# Altium schematic symbol library jlcpcb_2025_04_inductors_extended_1210.schlib: 422 symbols (part 5 of 8)
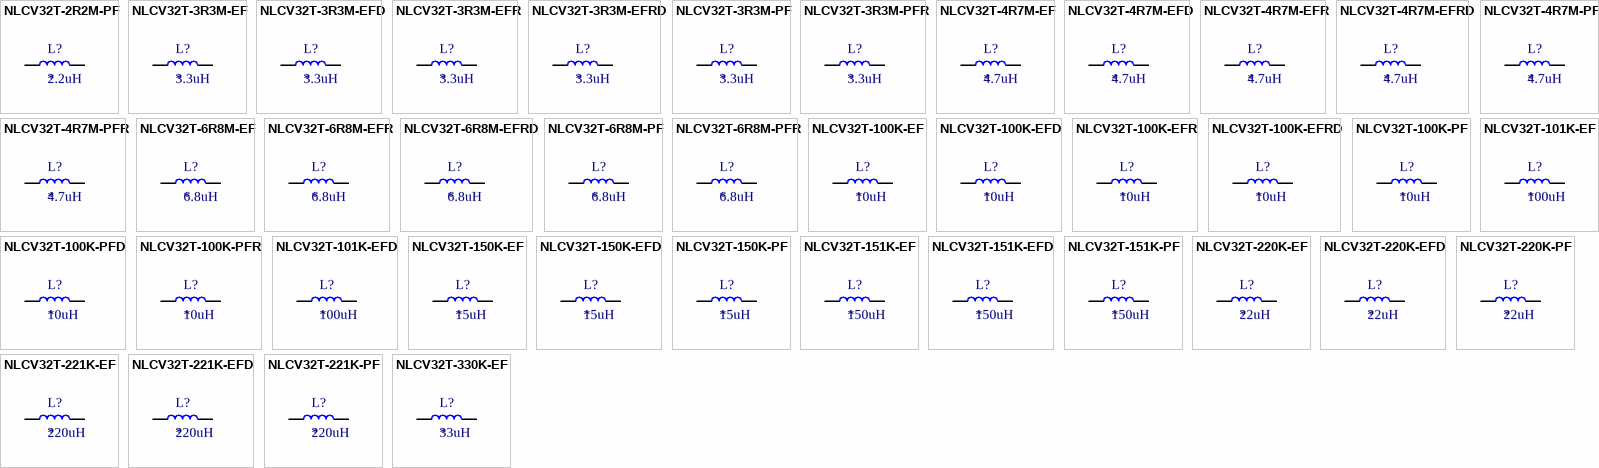
[diagram p14: symbols NLCV32T-2R2M-PF to NLCV32T-330K-EF]

## NLCV32T-4R7M-PF
designator L?  Inductance: 4.7uH
Inductor, 4.7uH, ±20%, 200mΩ, 620mA, SMD 1210; Manufacturer: TDK; Manufacturer Part Number: NLCV32T-4R7M-PF; Self-Resonant Frequency: 46MHz; Q Factor: 15@7.96MHz; Package Size: 1210; JLCPCB Basic Part: No; JLCPCB Part Number: C250185; Supplier 1: LCSC; Category: Inductors; Supplier Part Number 1: C250185; Tolerance: ±20%; Rated Current: 620mA; DC Resistance: 200mΩ; RoHS: Yes; ComponentLink1Description: Datasheet; ComponentLink1URL: https://wmsc.lcsc.com/wmsc/upload/file/pdf/v2/lcsc/2304140030_TDK-NLCV32T-4R7M-PF_C250185.pdf; ComponentLink2Description: JLCPCB Part URL; ComponentLink2URL: https://jlcpcb.com/partdetail/C250185; ComponentLink3Description: LCSC Part URL; ComponentLink3URL: https://lcsc.com/product-detail/Inductors-SMD_TDK-TDK-NLCV32T-4R7M-PF_C250185.html
footprint IND-1210 (1210 (3225M) Inductor)
pins: 1, 2

## NLCV32T-4R7M-PFR
designator L?  Inductance: 4.7uH
Inductor, 4.7uH, ±20%, 200mΩ, 900mA, SMD 1210; Manufacturer: TDK; Manufacturer Part Number: NLCV32T-4R7M-PFR; Self-Resonant Frequency: 46MHz; Q Factor: 15@7.96MHz; Package Size: 1210; JLCPCB Basic Part: No; JLCPCB Part Number: C307785; Supplier 1: LCSC; Category: Inductors; Supplier Part Number 1: C307785; Tolerance: ±20%; Rated Current: 900mA; DC Resistance: 200mΩ; RoHS: Yes; ComponentLink1Description: Datasheet; ComponentLink1URL: https://wmsc.lcsc.com/wmsc/upload/file/pdf/v2/lcsc/2304140030_TDK-NLCV32T-4R7M-PFR_C307785.pdf; ComponentLink2Description: JLCPCB Part URL; ComponentLink2URL: https://jlcpcb.com/partdetail/C307785; ComponentLink3Description: LCSC Part URL; ComponentLink3URL: https://lcsc.com/product-detail/Inductors-SMD_TDK-TDK-NLCV32T-4R7M-PFR_C307785.html
footprint IND-1210 (1210 (3225M) Inductor)
pins: 1, 2

## NLCV32T-6R8M-EF
designator L?  Inductance: 6.8uH
Inductor, 6.8uH, ±20%, 270mΩ, 530mA, SMD 1210; Manufacturer: TDK; Manufacturer Part Number: NLCV32T-6R8M-EF; Self-Resonant Frequency: 38MHz; Q Factor: 15@7.96MHz; Package Size: 1210; JLCPCB Basic Part: No; JLCPCB Part Number: C250230; Supplier 1: LCSC; Category: Inductors; Supplier Part Number 1: C250230; Tolerance: ±20%; Rated Current: 530mA; DC Resistance: 270mΩ; RoHS: Yes; ComponentLink1Description: Datasheet; ComponentLink1URL: https://wmsc.lcsc.com/wmsc/upload/file/pdf/v2/lcsc/2304140030_TDK-NLCV32T-6R8M-EF_C250230.pdf; ComponentLink2Description: JLCPCB Part URL; ComponentLink2URL: https://jlcpcb.com/partdetail/C250230; ComponentLink3Description: LCSC Part URL; ComponentLink3URL: https://lcsc.com/product-detail/Inductors-SMD_TDK-TDK-NLCV32T-6R8M-EF_C250230.html
footprint IND-1210 (1210 (3225M) Inductor)
pins: 1, 2

## NLCV32T-6R8M-EFR
designator L?  Inductance: 6.8uH
Inductor, 6.8uH, ±20%, 290mΩ, 700mA, SMD 1210; Manufacturer: TDK; Manufacturer Part Number: NLCV32T-6R8M-EFR; Q Factor: 15@7.96MHz; Package Size: 1210; JLCPCB Basic Part: No; JLCPCB Part Number: C295228; Supplier 1: LCSC; Category: Inductors; Supplier Part Number 1: C295228; Tolerance: ±20%; Rated Current: 700mA; DC Resistance: 290mΩ; RoHS: Yes; ComponentLink1Description: Datasheet; ComponentLink1URL: https://wmsc.lcsc.com/wmsc/upload/file/pdf/v2/lcsc/1912111437_TDK-NLCV32T-6R8M-EFR_C295228.pdf; ComponentLink2Description: JLCPCB Part URL; ComponentLink2URL: https://jlcpcb.com/partdetail/C295228; ComponentLink3Description: LCSC Part URL; ComponentLink3URL: https://lcsc.com/product-detail/Inductors-SMD_TDK-TDK-NLCV32T-6R8M-EFR_C295228.html
footprint IND-1210 (1210 (3225M) Inductor)
pins: 1, 2

## NLCV32T-6R8M-EFRD
designator L?  Inductance: 6.8uH
Inductor, 6.8uH, ±20%, 290mΩ, 700mA, SMD 1210; Manufacturer: TDK; Manufacturer Part Number: NLCV32T-6R8M-EFRD; Q Factor: 15@7.96MHz; Package Size: 1210; JLCPCB Basic Part: No; JLCPCB Part Number: C295405; Supplier 1: LCSC; Category: Inductors; Supplier Part Number 1: C295405; Tolerance: ±20%; Rated Current: 700mA; DC Resistance: 290mΩ; RoHS: Yes; ComponentLink1Description: Datasheet; ComponentLink1URL: https://wmsc.lcsc.com/wmsc/upload/file/pdf/v2/lcsc/2304140030_TDK-NLCV32T-6R8M-EFRD_C295405.pdf; ComponentLink2Description: JLCPCB Part URL; ComponentLink2URL: https://jlcpcb.com/partdetail/C295405; ComponentLink3Description: LCSC Part URL; ComponentLink3URL: https://lcsc.com/product-detail/Inductors-SMD_TDK-TDK-NLCV32T-6R8M-EFRD_C295405.html
footprint IND-1210 (1210 (3225M) Inductor)
pins: 1, 2

## NLCV32T-6R8M-PF
designator L?  Inductance: 6.8uH
Inductor, 6.8uH, ±20%, 270mΩ, 530mA, SMD 1210; Manufacturer: TDK; Manufacturer Part Number: NLCV32T-6R8M-PF; Self-Resonant Frequency: 38MHz; Q Factor: 15@7.96MHz; Package Size: 1210; JLCPCB Basic Part: No; JLCPCB Part Number: C87558; Supplier 1: LCSC; Category: Inductors; Supplier Part Number 1: C87558; Tolerance: ±20%; Rated Current: 530mA; DC Resistance: 270mΩ; RoHS: Yes; ComponentLink1Description: Datasheet; ComponentLink1URL: https://wmsc.lcsc.com/wmsc/upload/file/pdf/v2/lcsc/2304140030_TDK-NLCV32T-6R8M-PF_C87558.pdf; ComponentLink2Description: JLCPCB Part URL; ComponentLink2URL: https://jlcpcb.com/partdetail/C87558; ComponentLink3Description: LCSC Part URL; ComponentLink3URL: https://lcsc.com/product-detail/Inductors-SMD_TDK-TDK-NLCV32T-6R8M-PF_C87558.html
footprint IND-1210 (1210 (3225M) Inductor)
pins: 1, 2

## NLCV32T-6R8M-PFR
designator L?  Inductance: 6.8uH
Inductor, 6.8uH, ±20%, 290mΩ, 700mA, SMD 1210; Manufacturer: TDK; Manufacturer Part Number: NLCV32T-6R8M-PFR; Self-Resonant Frequency: 38MHz; Q Factor: 15@7.96MHz; Package Size: 1210; JLCPCB Basic Part: No; JLCPCB Part Number: C87559; Supplier 1: LCSC; Category: Inductors; Supplier Part Number 1: C87559; Tolerance: ±20%; Rated Current: 700mA; DC Resistance: 290mΩ; RoHS: Yes; ComponentLink1Description: Datasheet; ComponentLink1URL: https://wmsc.lcsc.com/wmsc/upload/file/pdf/v2/lcsc/1810201223_TDK-NLCV32T-6R8M-PFR_C87559.pdf; ComponentLink2Description: JLCPCB Part URL; ComponentLink2URL: https://jlcpcb.com/partdetail/C87559; ComponentLink3Description: LCSC Part URL; ComponentLink3URL: https://lcsc.com/product-detail/Inductors-SMD_TDK-TDK-NLCV32T-6R8M-PFR_C87559.html
footprint IND-1210 (1210 (3225M) Inductor)
pins: 1, 2

## NLCV32T-100K-EF
designator L?  Inductance: 10uH
Inductor, 10uH, ±10%, 360mΩ, 450mA, SMD 1210; Manufacturer: TDK; Manufacturer Part Number: NLCV32T-100K-EF; Self-Resonant Frequency: 30MHz; Q Factor: 15@2.52MHz; Package Size: 1210; JLCPCB Basic Part: No; JLCPCB Part Number: C250231; Supplier 1: LCSC; Category: Inductors; Supplier Part Number 1: C250231; Tolerance: ±10%; Rated Current: 450mA; DC Resistance: 360mΩ; RoHS: Yes; ComponentLink1Description: Datasheet; ComponentLink1URL: https://wmsc.lcsc.com/wmsc/upload/file/pdf/v2/lcsc/2304140030_TDK-NLCV32T-100K-EF_C250231.pdf; ComponentLink2Description: JLCPCB Part URL; ComponentLink2URL: https://jlcpcb.com/partdetail/C250231; ComponentLink3Description: LCSC Part URL; ComponentLink3URL: https://lcsc.com/product-detail/Inductors-SMD_TDK-TDK-NLCV32T-100K-EF_C250231.html
footprint IND-1210 (1210 (3225M) Inductor)
pins: 1, 2

## NLCV32T-100K-EFD
designator L?  Inductance: 10uH
Inductor, 10uH, ±10%, 360mΩ, 450mA, SMD 1210; Manufacturer: TDK; Manufacturer Part Number: NLCV32T-100K-EFD; Self-Resonant Frequency: 30MHz; Q Factor: 15@2.52MHz; Package Size: 1210; JLCPCB Basic Part: No; JLCPCB Part Number: C21764; Supplier 1: LCSC; Category: Inductors; Supplier Part Number 1: C21764; Tolerance: ±10%; Rated Current: 450mA; DC Resistance: 360mΩ; RoHS: Yes; ComponentLink1Description: Datasheet; ComponentLink1URL: https://wmsc.lcsc.com/wmsc/upload/file/pdf/v2/lcsc/1810211604_TDK-NLCV32T-100K-EFD_C21764.pdf; ComponentLink2Description: JLCPCB Part URL; ComponentLink2URL: https://jlcpcb.com/partdetail/C21764; ComponentLink3Description: LCSC Part URL; ComponentLink3URL: https://lcsc.com/product-detail/Inductors-SMD_TDK-TDK-NLCV32T-100K-EFD_C21764.html
footprint IND-1210 (1210 (3225M) Inductor)
pins: 1, 2

## NLCV32T-100K-EFR
designator L?  Inductance: 10uH
Inductor, 10uH, ±10%, 420mΩ, 600mA, SMD 1210; Manufacturer: TDK; Manufacturer Part Number: NLCV32T-100K-EFR; Self-Resonant Frequency: 30MHz; Q Factor: 20@2.52MHz; Package Size: 1210; JLCPCB Basic Part: No; JLCPCB Part Number: C295195; Supplier 1: LCSC; Category: Inductors; Supplier Part Number 1: C295195; Tolerance: ±10%; Rated Current: 600mA; DC Resistance: 420mΩ; RoHS: Yes; ComponentLink1Description: Datasheet; ComponentLink1URL: https://wmsc.lcsc.com/wmsc/upload/file/pdf/v2/lcsc/2304140030_TDK-NLCV32T-100K-EFR_C295195.pdf; ComponentLink2Description: JLCPCB Part URL; ComponentLink2URL: https://jlcpcb.com/partdetail/C295195; ComponentLink3Description: LCSC Part URL; ComponentLink3URL: https://lcsc.com/product-detail/Inductors-SMD_TDK-TDK-NLCV32T-100K-EFR_C295195.html
footprint IND-1210 (1210 (3225M) Inductor)
pins: 1, 2

## NLCV32T-100K-EFRD
designator L?  Inductance: 10uH
Inductor, 10uH, ±10%, 420mΩ, 600mA, SMD 1210; Manufacturer: TDK; Manufacturer Part Number: NLCV32T-100K-EFRD; Self-Resonant Frequency: 30MHz; Q Factor: 20@2.52MHz; Package Size: 1210; JLCPCB Basic Part: No; JLCPCB Part Number: C286542; Supplier 1: LCSC; Category: Inductors; Supplier Part Number 1: C286542; Tolerance: ±10%; Rated Current: 600mA; DC Resistance: 420mΩ; RoHS: Yes; ComponentLink1Description: Datasheet; ComponentLink1URL: https://wmsc.lcsc.com/wmsc/upload/file/pdf/v2/lcsc/2304140030_TDK-NLCV32T-100K-EFRD_C286542.pdf; ComponentLink2Description: JLCPCB Part URL; ComponentLink2URL: https://jlcpcb.com/partdetail/C286542; ComponentLink3Description: LCSC Part URL; ComponentLink3URL: https://lcsc.com/product-detail/Inductors-SMD_TDK-TDK-NLCV32T-100K-EFRD_C286542.html
footprint IND-1210 (1210 (3225M) Inductor)
pins: 1, 2

## NLCV32T-100K-PF
designator L?  Inductance: 10uH
Inductor, 10uH, ±10%, 360mΩ, 450mA, SMD 1210; Manufacturer: TDK; Manufacturer Part Number: NLCV32T-100K-PF; Self-Resonant Frequency: 30MHz; Q Factor: 15@2.52MHz; Package Size: 1210; JLCPCB Basic Part: No; JLCPCB Part Number: C107341; Supplier 1: LCSC; Category: Inductors; Supplier Part Number 1: C107341; Tolerance: ±10%; Rated Current: 450mA; DC Resistance: 360mΩ; RoHS: Yes; ComponentLink1Description: Datasheet; ComponentLink1URL: https://wmsc.lcsc.com/wmsc/upload/file/pdf/v2/lcsc/2304140030_TDK-NLCV32T-100K-PF_C107341.pdf; ComponentLink2Description: JLCPCB Part URL; ComponentLink2URL: https://jlcpcb.com/partdetail/C107341; ComponentLink3Description: LCSC Part URL; ComponentLink3URL: https://lcsc.com/product-detail/Inductors-SMD_TDK-TDK-NLCV32T-100K-PF_C107341.html
footprint IND-1210 (1210 (3225M) Inductor)
pins: 1, 2

## NLCV32T-100K-PFD
designator L?  Inductance: 10uH
Inductor, 10uH, ±10%, 360mΩ, 450mA, SMD 1210; Manufacturer: TDK; Manufacturer Part Number: NLCV32T-100K-PFD; Self-Resonant Frequency: 30MHz; Q Factor: 15@2.52MHz; Package Size: 1210; JLCPCB Basic Part: No; JLCPCB Part Number: C307783; Supplier 1: LCSC; Category: Inductors; Supplier Part Number 1: C307783; Tolerance: ±10%; Rated Current: 450mA; DC Resistance: 360mΩ; RoHS: Yes; ComponentLink1Description: Datasheet; ComponentLink1URL: https://wmsc.lcsc.com/wmsc/upload/file/pdf/v2/lcsc/2304140030_TDK-NLCV32T-100K-PFD_C307783.pdf; ComponentLink2Description: JLCPCB Part URL; ComponentLink2URL: https://jlcpcb.com/partdetail/C307783; ComponentLink3Description: LCSC Part URL; ComponentLink3URL: https://lcsc.com/product-detail/Inductors-SMD_TDK-TDK-NLCV32T-100K-PFD_C307783.html
footprint IND-1210 (1210 (3225M) Inductor)
pins: 1, 2

## NLCV32T-100K-PFR
designator L?  Inductance: 10uH
Inductor, 10uH, ±10%, 420mΩ, 600mA, SMD 1210; Manufacturer: TDK; Manufacturer Part Number: NLCV32T-100K-PFR; Self-Resonant Frequency: 30MHz; Q Factor: 20@2.52MHz; Package Size: 1210; JLCPCB Basic Part: No; JLCPCB Part Number: C74563; Supplier 1: LCSC; Category: Inductors; Supplier Part Number 1: C74563; Tolerance: ±10%; Rated Current: 600mA; DC Resistance: 420mΩ; RoHS: Yes; ComponentLink1Description: Datasheet; ComponentLink1URL: https://wmsc.lcsc.com/wmsc/upload/file/pdf/v2/lcsc/1810201211_TDK-NLCV32T-100K-PFR_C74563.pdf; ComponentLink2Description: JLCPCB Part URL; ComponentLink2URL: https://jlcpcb.com/partdetail/C74563; ComponentLink3Description: LCSC Part URL; ComponentLink3URL: https://lcsc.com/product-detail/Inductors-SMD_TDK-TDK-NLCV32T-100K-PFR_C74563.html
footprint IND-1210 (1210 (3225M) Inductor)
pins: 1, 2

## NLCV32T-101K-EF
designator L?  Inductance: 100uH
Inductor, 100uH, ±10%, 3.7Ω, 120mA, SMD 1210; Manufacturer: TDK; Manufacturer Part Number: NLCV32T-101K-EF; Self-Resonant Frequency: 10MHz; Q Factor: 15@0.796MHz; Package Size: 1210; JLCPCB Basic Part: No; JLCPCB Part Number: C165807; Supplier 1: LCSC; Category: Inductors; Supplier Part Number 1: C165807; Tolerance: ±10%; Rated Current: 120mA; DC Resistance: 3.7Ω; RoHS: Yes; ComponentLink1Description: Datasheet; ComponentLink1URL: https://wmsc.lcsc.com/wmsc/upload/file/pdf/v2/lcsc/2304140030_TDK-NLCV32T-101K-EF_C165807.pdf; ComponentLink2Description: JLCPCB Part URL; ComponentLink2URL: https://jlcpcb.com/partdetail/C165807; ComponentLink3Description: LCSC Part URL; ComponentLink3URL: https://lcsc.com/product-detail/Inductors-SMD_TDK-TDK-NLCV32T-101K-EF_C165807.html
footprint IND-1210 (1210 (3225M) Inductor)
pins: 1, 2

## NLCV32T-101K-EFD
designator L?  Inductance: 100uH
Inductor, 100uH, ±10%, 3.7Ω, 120mA, SMD 1210; Manufacturer: TDK; Manufacturer Part Number: NLCV32T-101K-EFD; Self-Resonant Frequency: 10MHz; Q Factor: 15@0.796MHz; Package Size: 1210; JLCPCB Basic Part: No; JLCPCB Part Number: C295378; Supplier 1: LCSC; Category: Inductors; Supplier Part Number 1: C295378; Tolerance: ±10%; Rated Current: 120mA; DC Resistance: 3.7Ω; RoHS: Yes; ComponentLink1Description: Datasheet; ComponentLink1URL: https://wmsc.lcsc.com/wmsc/upload/file/pdf/v2/lcsc/2304140030_TDK-NLCV32T-101K-EFD_C295378.pdf; ComponentLink2Description: JLCPCB Part URL; ComponentLink2URL: https://jlcpcb.com/partdetail/C295378; ComponentLink3Description: LCSC Part URL; ComponentLink3URL: https://lcsc.com/product-detail/Inductors-SMD_TDK-TDK-NLCV32T-101K-EFD_C295378.html
footprint IND-1210 (1210 (3225M) Inductor)
pins: 1, 2

## NLCV32T-150K-EF
designator L?  Inductance: 15uH
Inductor, 15uH, ±10%, 560mΩ, 370mA, SMD 1210; Manufacturer: TDK; Manufacturer Part Number: NLCV32T-150K-EF; Self-Resonant Frequency: 26MHz; Q Factor: 15@2.52MHz; Package Size: 1210; JLCPCB Basic Part: No; JLCPCB Part Number: C250232; Supplier 1: LCSC; Category: Inductors; Supplier Part Number 1: C250232; Tolerance: ±10%; Rated Current: 370mA; DC Resistance: 560mΩ; RoHS: Yes; ComponentLink1Description: Datasheet; ComponentLink1URL: https://wmsc.lcsc.com/wmsc/upload/file/pdf/v2/lcsc/2304140030_TDK-NLCV32T-150K-EF_C250232.pdf; ComponentLink2Description: JLCPCB Part URL; ComponentLink2URL: https://jlcpcb.com/partdetail/C250232; ComponentLink3Description: LCSC Part URL; ComponentLink3URL: https://lcsc.com/product-detail/Inductors-SMD_TDK-TDK-NLCV32T-150K-EF_C250232.html
footprint IND-1210 (1210 (3225M) Inductor)
pins: 1, 2

## NLCV32T-150K-EFD
designator L?  Inductance: 15uH
Inductor, 15uH, ±10%, 560mΩ, 370mA, SMD 1210; Manufacturer: TDK; Manufacturer Part Number: NLCV32T-150K-EFD; Self-Resonant Frequency: 26MHz; Q Factor: 15@2.52MHz; Package Size: 1210; JLCPCB Basic Part: No; JLCPCB Part Number: C295379; Supplier 1: LCSC; Category: Inductors; Supplier Part Number 1: C295379; Tolerance: ±10%; Rated Current: 370mA; DC Resistance: 560mΩ; RoHS: Yes; ComponentLink1Description: Datasheet; ComponentLink1URL: https://wmsc.lcsc.com/wmsc/upload/file/pdf/v2/lcsc/2304140030_TDK-NLCV32T-150K-EFD_C295379.pdf; ComponentLink2Description: JLCPCB Part URL; ComponentLink2URL: https://jlcpcb.com/partdetail/C295379; ComponentLink3Description: LCSC Part URL; ComponentLink3URL: https://lcsc.com/product-detail/Inductors-SMD_TDK-TDK-NLCV32T-150K-EFD_C295379.html
footprint IND-1210 (1210 (3225M) Inductor)
pins: 1, 2

## NLCV32T-150K-PF
designator L?  Inductance: 15uH
Inductor, 15uH, ±10%, 560mΩ, 370mA, SMD 1210; Manufacturer: TDK; Manufacturer Part Number: NLCV32T-150K-PF; Self-Resonant Frequency: 26MHz; Q Factor: 15@2.52MHz; Package Size: 1210; JLCPCB Basic Part: No; JLCPCB Part Number: C250186; Supplier 1: LCSC; Category: Inductors; Supplier Part Number 1: C250186; Tolerance: ±10%; Rated Current: 370mA; DC Resistance: 560mΩ; RoHS: Yes; ComponentLink1Description: Datasheet; ComponentLink1URL: https://wmsc.lcsc.com/wmsc/upload/file/pdf/v2/lcsc/2304140030_TDK-NLCV32T-150K-PF_C250186.pdf; ComponentLink2Description: JLCPCB Part URL; ComponentLink2URL: https://jlcpcb.com/partdetail/C250186; ComponentLink3Description: LCSC Part URL; ComponentLink3URL: https://lcsc.com/product-detail/Inductors-SMD_TDK-TDK-NLCV32T-150K-PF_C250186.html
footprint IND-1210 (1210 (3225M) Inductor)
pins: 1, 2

## NLCV32T-151K-EF
designator L?  Inductance: 150uH
Inductor, 150uH, ±10%, 6.1Ω, 100mA, SMD 1210; Manufacturer: TDK; Manufacturer Part Number: NLCV32T-151K-EF; Self-Resonant Frequency: 8MHz; Q Factor: 20@0.796MHz; Package Size: 1210; JLCPCB Basic Part: No; JLCPCB Part Number: C250237; Supplier 1: LCSC; Category: Inductors; Supplier Part Number 1: C250237; Tolerance: ±10%; Rated Current: 100mA; DC Resistance: 6.1Ω; RoHS: Yes; ComponentLink1Description: Datasheet; ComponentLink1URL: https://wmsc.lcsc.com/wmsc/upload/file/pdf/v2/lcsc/2304140030_TDK-NLCV32T-151K-EF_C250237.pdf; ComponentLink2Description: JLCPCB Part URL; ComponentLink2URL: https://jlcpcb.com/partdetail/C250237; ComponentLink3Description: LCSC Part URL; ComponentLink3URL: https://lcsc.com/product-detail/Inductors-SMD_TDK-TDK-NLCV32T-151K-EF_C250237.html
footprint IND-1210 (1210 (3225M) Inductor)
pins: 1, 2

## NLCV32T-151K-EFD
designator L?  Inductance: 150uH
Inductor, 150uH, ±10%, 6.1Ω, 100mA, SMD 1210; Manufacturer: TDK; Manufacturer Part Number: NLCV32T-151K-EFD; Self-Resonant Frequency: 8MHz; Q Factor: 20@0.796MHz; Package Size: 1210; JLCPCB Basic Part: No; JLCPCB Part Number: C295220; Supplier 1: LCSC; Category: Inductors; Supplier Part Number 1: C295220; Tolerance: ±10%; Rated Current: 100mA; DC Resistance: 6.1Ω; RoHS: Yes; ComponentLink1Description: Datasheet; ComponentLink1URL: https://wmsc.lcsc.com/wmsc/upload/file/pdf/v2/lcsc/2304140030_TDK-NLCV32T-151K-EFD_C295220.pdf; ComponentLink2Description: JLCPCB Part URL; ComponentLink2URL: https://jlcpcb.com/partdetail/C295220; ComponentLink3Description: LCSC Part URL; ComponentLink3URL: https://lcsc.com/product-detail/Inductors-SMD_TDK-TDK-NLCV32T-151K-EFD_C295220.html
footprint IND-1210 (1210 (3225M) Inductor)
pins: 1, 2

## NLCV32T-151K-PF
designator L?  Inductance: 150uH
Inductor, 150uH, ±10%, 6.1Ω, 100mA, SMD 1210; Manufacturer: TDK; Manufacturer Part Number: NLCV32T-151K-PF; Self-Resonant Frequency: 8MHz; Q Factor: 20@0.796MHz; Package Size: 1210; JLCPCB Basic Part: No; JLCPCB Part Number: C250188; Supplier 1: LCSC; Category: Inductors; Supplier Part Number 1: C250188; Tolerance: ±10%; Rated Current: 100mA; DC Resistance: 6.1Ω; RoHS: Yes; ComponentLink1Description: Datasheet; ComponentLink1URL: https://wmsc.lcsc.com/wmsc/upload/file/pdf/v2/lcsc/2304140030_TDK-NLCV32T-151K-PF_C250188.pdf; ComponentLink2Description: JLCPCB Part URL; ComponentLink2URL: https://jlcpcb.com/partdetail/C250188; ComponentLink3Description: LCSC Part URL; ComponentLink3URL: https://lcsc.com/product-detail/Inductors-SMD_TDK-TDK-NLCV32T-151K-PF_C250188.html
footprint IND-1210 (1210 (3225M) Inductor)
pins: 1, 2

## NLCV32T-220K-EF
designator L?  Inductance: 22uH
Inductor, 22uH, ±10%, 770mΩ, 300mA, SMD 1210; Manufacturer: TDK; Manufacturer Part Number: NLCV32T-220K-EF; Self-Resonant Frequency: 21MHz; Q Factor: 15@2.52MHz; Package Size: 1210; JLCPCB Basic Part: No; JLCPCB Part Number: C250233; Supplier 1: LCSC; Category: Inductors; Supplier Part Number 1: C250233; Tolerance: ±10%; Rated Current: 300mA; DC Resistance: 770mΩ; RoHS: Yes; ComponentLink1Description: Datasheet; ComponentLink1URL: https://wmsc.lcsc.com/wmsc/upload/file/pdf/v2/lcsc/2304140030_TDK-NLCV32T-220K-EF_C250233.pdf; ComponentLink2Description: JLCPCB Part URL; ComponentLink2URL: https://jlcpcb.com/partdetail/C250233; ComponentLink3Description: LCSC Part URL; ComponentLink3URL: https://lcsc.com/product-detail/Inductors-SMD_TDK-TDK-NLCV32T-220K-EF_C250233.html
footprint IND-1210 (1210 (3225M) Inductor)
pins: 1, 2

## NLCV32T-220K-EFD
designator L?  Inductance: 22uH
Inductor, 22uH, ±10%, 770mΩ, 300mA, SMD 1210; Manufacturer: TDK; Manufacturer Part Number: NLCV32T-220K-EFD; Self-Resonant Frequency: 21MHz; Q Factor: 15@2.52MHz; Package Size: 1210; JLCPCB Basic Part: No; JLCPCB Part Number: C295382; Supplier 1: LCSC; Category: Inductors; Supplier Part Number 1: C295382; Tolerance: ±10%; Rated Current: 300mA; DC Resistance: 770mΩ; RoHS: Yes; ComponentLink1Description: Datasheet; ComponentLink1URL: https://wmsc.lcsc.com/wmsc/upload/file/pdf/v2/lcsc/2304140030_TDK-NLCV32T-220K-EFD_C295382.pdf; ComponentLink2Description: JLCPCB Part URL; ComponentLink2URL: https://jlcpcb.com/partdetail/C295382; ComponentLink3Description: LCSC Part URL; ComponentLink3URL: https://lcsc.com/product-detail/Inductors-SMD_TDK-TDK-NLCV32T-220K-EFD_C295382.html
footprint IND-1210 (1210 (3225M) Inductor)
pins: 1, 2

## NLCV32T-220K-PF
designator L?  Inductance: 22uH
Inductor, 22uH, ±10%, 770mΩ, 300mA, SMD 1210; Manufacturer: TDK; Manufacturer Part Number: NLCV32T-220K-PF; Self-Resonant Frequency: 21MHz; Q Factor: 15@2.52MHz; Package Size: 1210; JLCPCB Basic Part: No; JLCPCB Part Number: C83084; Supplier 1: LCSC; Category: Inductors; Supplier Part Number 1: C83084; Tolerance: ±10%; Rated Current: 300mA; DC Resistance: 770mΩ; RoHS: Yes; ComponentLink1Description: Datasheet; ComponentLink1URL: https://wmsc.lcsc.com/wmsc/upload/file/pdf/v2/lcsc/1810201223_TDK-NLCV32T-220K-PF_C83084.pdf; ComponentLink2Description: JLCPCB Part URL; ComponentLink2URL: https://jlcpcb.com/partdetail/C83084; ComponentLink3Description: LCSC Part URL; ComponentLink3URL: https://lcsc.com/product-detail/Inductors-SMD_TDK-TDK-NLCV32T-220K-PF_C83084.html
footprint IND-1210 (1210 (3225M) Inductor)
pins: 1, 2

## NLCV32T-221K-EF
designator L?  Inductance: 220uH
Inductor, 220uH, ±10%, 8.4Ω, 80mA, SMD 1210; Manufacturer: TDK; Manufacturer Part Number: NLCV32T-221K-EF; Self-Resonant Frequency: 7MHz; Q Factor: 20@0.796MHz; Package Size: 1210; JLCPCB Basic Part: No; JLCPCB Part Number: C250238; Supplier 1: LCSC; Category: Inductors; Supplier Part Number 1: C250238; Tolerance: ±10%; Rated Current: 80mA; DC Resistance: 8.4Ω; RoHS: Yes; ComponentLink1Description: Datasheet; ComponentLink1URL: https://wmsc.lcsc.com/wmsc/upload/file/pdf/v2/lcsc/2304140030_TDK-NLCV32T-221K-EF_C250238.pdf; ComponentLink2Description: JLCPCB Part URL; ComponentLink2URL: https://jlcpcb.com/partdetail/C250238; ComponentLink3Description: LCSC Part URL; ComponentLink3URL: https://lcsc.com/product-detail/Inductors-SMD_TDK-TDK-NLCV32T-221K-EF_C250238.html
footprint IND-1210 (1210 (3225M) Inductor)
pins: 1, 2

## NLCV32T-221K-EFD
designator L?  Inductance: 220uH
Inductor, 220uH, ±10%, 8.4Ω, 80mA, SMD 1210; Manufacturer: TDK; Manufacturer Part Number: NLCV32T-221K-EFD; Self-Resonant Frequency: 7MHz; Q Factor: 20@0.796MHz; Package Size: 1210; JLCPCB Basic Part: No; JLCPCB Part Number: C295383; Supplier 1: LCSC; Category: Inductors; Supplier Part Number 1: C295383; Tolerance: ±10%; Rated Current: 80mA; DC Resistance: 8.4Ω; RoHS: Yes; ComponentLink1Description: Datasheet; ComponentLink1URL: https://wmsc.lcsc.com/wmsc/upload/file/pdf/v2/lcsc/2304140030_TDK-NLCV32T-221K-EFD_C295383.pdf; ComponentLink2Description: JLCPCB Part URL; ComponentLink2URL: https://jlcpcb.com/partdetail/C295383; ComponentLink3Description: LCSC Part URL; ComponentLink3URL: https://lcsc.com/product-detail/Inductors-SMD_TDK-TDK-NLCV32T-221K-EFD_C295383.html
footprint IND-1210 (1210 (3225M) Inductor)
pins: 1, 2

## NLCV32T-221K-PF
designator L?  Inductance: 220uH
Inductor, 220uH, ±10%, 8.4Ω, 80mA, SMD 1210; Manufacturer: TDK; Manufacturer Part Number: NLCV32T-221K-PF; Self-Resonant Frequency: 7MHz; Q Factor: 20@0.796MHz; Package Size: 1210; JLCPCB Basic Part: No; JLCPCB Part Number: C250189; Supplier 1: LCSC; Category: Inductors; Supplier Part Number 1: C250189; Tolerance: ±10%; Rated Current: 80mA; DC Resistance: 8.4Ω; RoHS: Yes; ComponentLink1Description: Datasheet; ComponentLink1URL: https://wmsc.lcsc.com/wmsc/upload/file/pdf/v2/lcsc/1810201252_TDK-NLCV32T-221K-PF_C250189.pdf; ComponentLink2Description: JLCPCB Part URL; ComponentLink2URL: https://jlcpcb.com/partdetail/C250189; ComponentLink3Description: LCSC Part URL; ComponentLink3URL: https://lcsc.com/product-detail/Inductors-SMD_TDK-TDK-NLCV32T-221K-PF_C250189.html
footprint IND-1210 (1210 (3225M) Inductor)
pins: 1, 2

## NLCV32T-330K-EF
designator L?  Inductance: 33uH
Inductor, 33uH, ±10%, 1.1Ω, 240mA, SMD 1210; Manufacturer: TDK; Manufacturer Part Number: NLCV32T-330K-EF; Self-Resonant Frequency: 17MHz; Q Factor: 15@2.52MHz; Package Size: 1210; JLCPCB Basic Part: No; JLCPCB Part Number: C250234; Supplier 1: LCSC; Category: Inductors; Supplier Part Number 1: C250234; Tolerance: ±10%; Rated Current: 240mA; DC Resistance: 1.1Ω; RoHS: Yes; ComponentLink1Description: Datasheet; ComponentLink1URL: https://wmsc.lcsc.com/wmsc/upload/file/pdf/v2/lcsc/2304140030_TDK-NLCV32T-330K-EF_C250234.pdf; ComponentLink2Description: JLCPCB Part URL; ComponentLink2URL: https://jlcpcb.com/partdetail/C250234; ComponentLink3Description: LCSC Part URL; ComponentLink3URL: https://lcsc.com/product-detail/Inductors-SMD_TDK-TDK-NLCV32T-330K-EF_C250234.html
footprint IND-1210 (1210 (3225M) Inductor)
pins: 1, 2

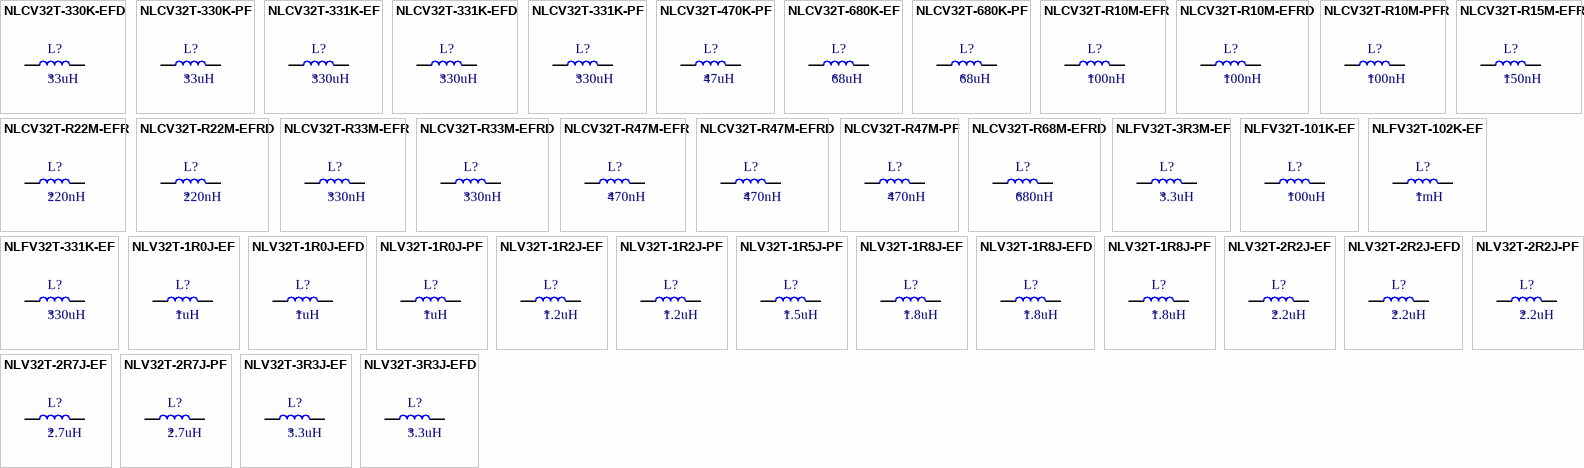
[diagram p6: symbols NLCV32T-330K-EFD to NLV32T-3R3J-EFD]

## NLCV32T-330K-EFD
designator L?  Inductance: 33uH
Inductor, 33uH, ±10%, 1.1Ω, 240mA, SMD 1210; Manufacturer: TDK; Manufacturer Part Number: NLCV32T-330K-EFD; Self-Resonant Frequency: 17MHz; Q Factor: 15@2.52MHz; Package Size: 1210; JLCPCB Basic Part: No; JLCPCB Part Number: C295384; Supplier 1: LCSC; Category: Inductors; Supplier Part Number 1: C295384; Tolerance: ±10%; Rated Current: 240mA; DC Resistance: 1.1Ω; RoHS: Yes; ComponentLink1Description: Datasheet; ComponentLink1URL: https://wmsc.lcsc.com/wmsc/upload/file/pdf/v2/lcsc/1912111437_TDK-NLCV32T-330K-EFD_C295384.pdf; ComponentLink2Description: JLCPCB Part URL; ComponentLink2URL: https://jlcpcb.com/partdetail/C295384; ComponentLink3Description: LCSC Part URL; ComponentLink3URL: https://lcsc.com/product-detail/Inductors-SMD_TDK-TDK-NLCV32T-330K-EFD_C295384.html
footprint IND-1210 (1210 (3225M) Inductor)
pins: 1, 2

## NLCV32T-330K-PF
designator L?  Inductance: 33uH
Inductor, 33uH, ±10%, 1.1Ω, 240mA, SMD 1210; Manufacturer: TDK; Manufacturer Part Number: NLCV32T-330K-PF; Self-Resonant Frequency: 17MHz; Q Factor: 15@2.52MHz; Package Size: 1210; JLCPCB Basic Part: No; JLCPCB Part Number: C136221; Supplier 1: LCSC; Category: Inductors; Supplier Part Number 1: C136221; Tolerance: ±10%; Rated Current: 240mA; DC Resistance: 1.1Ω; RoHS: Yes; ComponentLink1Description: Datasheet; ComponentLink1URL: https://wmsc.lcsc.com/wmsc/upload/file/pdf/v2/lcsc/1810201241_TDK-NLCV32T-330K-PF_C136221.pdf; ComponentLink2Description: JLCPCB Part URL; ComponentLink2URL: https://jlcpcb.com/partdetail/C136221; ComponentLink3Description: LCSC Part URL; ComponentLink3URL: https://lcsc.com/product-detail/Inductors-SMD_TDK-TDK-NLCV32T-330K-PF_C136221.html
footprint IND-1210 (1210 (3225M) Inductor)
pins: 1, 2

## NLCV32T-331K-EF
designator L?  Inductance: 330uH
Inductor, 330uH, ±10%, 12.3Ω, 70mA, SMD 1210; Manufacturer: TDK; Manufacturer Part Number: NLCV32T-331K-EF; Self-Resonant Frequency: 6MHz; Q Factor: 20@0.796MHz; Package Size: 1210; JLCPCB Basic Part: No; JLCPCB Part Number: C165806; Supplier 1: LCSC; Category: Inductors; Supplier Part Number 1: C165806; Tolerance: ±10%; Rated Current: 70mA; DC Resistance: 12.3Ω; RoHS: Yes; ComponentLink1Description: Datasheet; ComponentLink1URL: https://wmsc.lcsc.com/wmsc/upload/file/pdf/v2/lcsc/2304140030_TDK-NLCV32T-331K-EF_C165806.pdf; ComponentLink2Description: JLCPCB Part URL; ComponentLink2URL: https://jlcpcb.com/partdetail/C165806; ComponentLink3Description: LCSC Part URL; ComponentLink3URL: https://lcsc.com/product-detail/Inductors-SMD_TDK-TDK-NLCV32T-331K-EF_C165806.html
footprint IND-1210 (1210 (3225M) Inductor)
pins: 1, 2

## NLCV32T-331K-EFD
designator L?  Inductance: 330uH
Inductor, 330uH, ±10%, 12.3Ω, 70mA, SMD 1210; Manufacturer: TDK; Manufacturer Part Number: NLCV32T-331K-EFD; Self-Resonant Frequency: 6MHz; Q Factor: 20@0.796MHz; Package Size: 1210; JLCPCB Basic Part: No; JLCPCB Part Number: C286546; Supplier 1: LCSC; Category: Inductors; Supplier Part Number 1: C286546; Tolerance: ±10%; Rated Current: 70mA; DC Resistance: 12.3Ω; RoHS: Yes; ComponentLink1Description: Datasheet; ComponentLink1URL: https://wmsc.lcsc.com/wmsc/upload/file/pdf/v2/lcsc/2304140030_TDK-NLCV32T-331K-EFD_C286546.pdf; ComponentLink2Description: JLCPCB Part URL; ComponentLink2URL: https://jlcpcb.com/partdetail/C286546; ComponentLink3Description: LCSC Part URL; ComponentLink3URL: https://lcsc.com/product-detail/Inductors-SMD_TDK-TDK-NLCV32T-331K-EFD_C286546.html
footprint IND-1210 (1210 (3225M) Inductor)
pins: 1, 2

## NLCV32T-331K-PF
designator L?  Inductance: 330uH
Inductor, 330uH, ±10%, 12.3Ω, 70mA, SMD 1210; Manufacturer: TDK; Manufacturer Part Number: NLCV32T-331K-PF; Self-Resonant Frequency: 6MHz; Q Factor: 20@0.796MHz; Package Size: 1210; JLCPCB Basic Part: No; JLCPCB Part Number: C87557; Supplier 1: LCSC; Category: Inductors; Supplier Part Number 1: C87557; Tolerance: ±10%; Rated Current: 70mA; DC Resistance: 12.3Ω; RoHS: Yes; ComponentLink1Description: Datasheet; ComponentLink1URL: https://wmsc.lcsc.com/wmsc/upload/file/pdf/v2/lcsc/2304140030_TDK-NLCV32T-331K-PF_C87557.pdf; ComponentLink2Description: JLCPCB Part URL; ComponentLink2URL: https://jlcpcb.com/partdetail/C87557; ComponentLink3Description: LCSC Part URL; ComponentLink3URL: https://lcsc.com/product-detail/Inductors-SMD_TDK-TDK-NLCV32T-331K-PF_C87557.html
footprint IND-1210 (1210 (3225M) Inductor)
pins: 1, 2

## NLCV32T-470K-PF
designator L?  Inductance: 47uH
Inductor, 47uH, ±10%, 1.64Ω, 180mA, SMD 1210; Manufacturer: TDK; Manufacturer Part Number: NLCV32T-470K-PF; Self-Resonant Frequency: 14MHz; Q Factor: 15@2.52MHz; Package Size: 1210; JLCPCB Basic Part: No; JLCPCB Part Number: C83083; Supplier 1: LCSC; Category: Inductors; Supplier Part Number 1: C83083; Tolerance: ±10%; Rated Current: 180mA; DC Resistance: 1.64Ω; RoHS: Yes; ComponentLink1Description: Datasheet; ComponentLink1URL: https://wmsc.lcsc.com/wmsc/upload/file/pdf/v2/lcsc/2304140030_TDK-NLCV32T-470K-PF_C83083.pdf; ComponentLink2Description: JLCPCB Part URL; ComponentLink2URL: https://jlcpcb.com/partdetail/C83083; ComponentLink3Description: LCSC Part URL; ComponentLink3URL: https://lcsc.com/product-detail/Inductors-SMD_TDK-TDK-NLCV32T-470K-PF_C83083.html
footprint IND-1210 (1210 (3225M) Inductor)
pins: 1, 2

## NLCV32T-680K-EF
designator L?  Inductance: 68uH
Inductor, 68uH, ±10%, 2.8Ω, 140mA, SMD 1210; Manufacturer: TDK; Manufacturer Part Number: NLCV32T-680K-EF; Self-Resonant Frequency: 12MHz; Q Factor: 15@2.52MHz; Package Size: 1210; JLCPCB Basic Part: No; JLCPCB Part Number: C250236; Supplier 1: LCSC; Category: Inductors; Supplier Part Number 1: C250236; Tolerance: ±10%; Rated Current: 140mA; DC Resistance: 2.8Ω; RoHS: Yes; ComponentLink1Description: Datasheet; ComponentLink1URL: https://wmsc.lcsc.com/wmsc/upload/file/pdf/v2/lcsc/2304140030_TDK-NLCV32T-680K-EF_C250236.pdf; ComponentLink2Description: JLCPCB Part URL; ComponentLink2URL: https://jlcpcb.com/partdetail/C250236; ComponentLink3Description: LCSC Part URL; ComponentLink3URL: https://lcsc.com/product-detail/Inductors-SMD_TDK-TDK-NLCV32T-680K-EF_C250236.html
footprint IND-1210 (1210 (3225M) Inductor)
pins: 1, 2

## NLCV32T-680K-PF
designator L?  Inductance: 68uH
Inductor, 68uH, ±10%, 2.8Ω, 140mA, SMD 1210; Manufacturer: TDK; Manufacturer Part Number: NLCV32T-680K-PF; Self-Resonant Frequency: 12MHz; Q Factor: 15@2.52MHz; Package Size: 1210; JLCPCB Basic Part: No; JLCPCB Part Number: C250187; Supplier 1: LCSC; Category: Inductors; Supplier Part Number 1: C250187; Tolerance: ±10%; Rated Current: 140mA; DC Resistance: 2.8Ω; RoHS: Yes; ComponentLink1Description: Datasheet; ComponentLink1URL: https://wmsc.lcsc.com/wmsc/upload/file/pdf/v2/lcsc/2304140030_TDK-NLCV32T-680K-PF_C250187.pdf; ComponentLink2Description: JLCPCB Part URL; ComponentLink2URL: https://jlcpcb.com/partdetail/C250187; ComponentLink3Description: LCSC Part URL; ComponentLink3URL: https://lcsc.com/product-detail/Inductors-SMD_TDK-TDK-NLCV32T-680K-PF_C250187.html
footprint IND-1210 (1210 (3225M) Inductor)
pins: 1, 2

## NLCV32T-R10M-EFR
designator L?  Inductance: 100nH
Inductor, 100nH, ±20%, 20mΩ, 2.85A, SMD 1210; Manufacturer: TDK; Manufacturer Part Number: NLCV32T-R10M-EFR; Self-Resonant Frequency: 800MHz; Q Factor: 10@25.2MHz; Package Size: 1210; JLCPCB Basic Part: No; JLCPCB Part Number: C295196; Supplier 1: LCSC; Category: Inductors; Supplier Part Number 1: C295196; Tolerance: ±20%; Rated Current: 2.85A; DC Resistance: 20mΩ; RoHS: Yes; ComponentLink1Description: Datasheet; ComponentLink1URL: https://wmsc.lcsc.com/wmsc/upload/file/pdf/v2/lcsc/2304140030_TDK-NLCV32T-R10M-EFR_C295196.pdf; ComponentLink2Description: JLCPCB Part URL; ComponentLink2URL: https://jlcpcb.com/partdetail/C295196; ComponentLink3Description: LCSC Part URL; ComponentLink3URL: https://lcsc.com/product-detail/Inductors-SMD_TDK-TDK-NLCV32T-R10M-EFR_C295196.html
footprint IND-1210 (1210 (3225M) Inductor)
pins: 1, 2

## NLCV32T-R10M-EFRD
designator L?  Inductance: 100nH
Inductor, 100nH, ±20%, 20mΩ, 2.85A, SMD 1210; Manufacturer: TDK; Manufacturer Part Number: NLCV32T-R10M-EFRD; Q Factor: 10@25.2MHz; Package Size: 1210; JLCPCB Basic Part: No; JLCPCB Part Number: C295406; Supplier 1: LCSC; Category: Inductors; Supplier Part Number 1: C295406; Tolerance: ±20%; Rated Current: 2.85A; DC Resistance: 20mΩ; RoHS: Yes; ComponentLink1Description: Datasheet; ComponentLink1URL: https://wmsc.lcsc.com/wmsc/upload/file/pdf/v2/lcsc/2304140030_TDK-NLCV32T-R10M-EFRD_C295406.pdf; ComponentLink2Description: JLCPCB Part URL; ComponentLink2URL: https://jlcpcb.com/partdetail/C295406; ComponentLink3Description: LCSC Part URL; ComponentLink3URL: https://lcsc.com/product-detail/Inductors-SMD_TDK-TDK-NLCV32T-R10M-EFRD_C295406.html
footprint IND-1210 (1210 (3225M) Inductor)
pins: 1, 2

## NLCV32T-R10M-PFR
designator L?  Inductance: 100nH
Inductor, 100nH, ±20%, 20mΩ, 2.85A, SMD 1210; Manufacturer: TDK; Manufacturer Part Number: NLCV32T-R10M-PFR; Package Size: 1210; JLCPCB Basic Part: No; JLCPCB Part Number: C2991847; Supplier 1: LCSC; Category: Inductors; Supplier Part Number 1: C2991847; Tolerance: ±20%; Rated Current: 2.85A; DC Resistance: 20mΩ; RoHS: Yes; ComponentLink1Description: Datasheet; ComponentLink1URL: https://wmsc.lcsc.com/wmsc/upload/file/pdf/v2/lcsc/2204261745_TDK-NLCV32T-R10M-PFR_C2991847.pdf; ComponentLink2Description: JLCPCB Part URL; ComponentLink2URL: https://jlcpcb.com/partdetail/C2991847; ComponentLink3Description: LCSC Part URL; ComponentLink3URL: https://lcsc.com/product-detail/Power-Inductors_TDK-TDK-NLCV32T-R10M-PFR_C2991847.html
footprint IND-1210 (1210 (3225M) Inductor)
pins: 1, 2

## NLCV32T-R15M-EFR
designator L?  Inductance: 150nH
Inductor, 150nH, ±20%, 24mΩ, 2.6A, SMD 1210; Manufacturer: TDK; Manufacturer Part Number: NLCV32T-R15M-EFR; Q Factor: 10@25.2MHz; Package Size: 1210; JLCPCB Basic Part: No; JLCPCB Part Number: C295339; Supplier 1: LCSC; Category: Inductors; Supplier Part Number 1: C295339; Tolerance: ±20%; Rated Current: 2.6A; DC Resistance: 24mΩ; RoHS: Yes; ComponentLink1Description: Datasheet; ComponentLink1URL: https://wmsc.lcsc.com/wmsc/upload/file/pdf/v2/lcsc/1912111437_TDK-NLCV32T-R15M-EFR_C295339.pdf; ComponentLink2Description: JLCPCB Part URL; ComponentLink2URL: https://jlcpcb.com/partdetail/C295339; ComponentLink3Description: LCSC Part URL; ComponentLink3URL: https://lcsc.com/product-detail/Inductors-SMD_TDK-TDK-NLCV32T-R15M-EFR_C295339.html
footprint IND-1210 (1210 (3225M) Inductor)
pins: 1, 2

## NLCV32T-R22M-EFR
designator L?  Inductance: 220nH
Inductor, 220nH, ±20%, 27mΩ, 2.4A, SMD 1210; Manufacturer: TDK; Manufacturer Part Number: NLCV32T-R22M-EFR; Q Factor: 10@25.2MHz; Package Size: 1210; JLCPCB Basic Part: No; JLCPCB Part Number: C295225; Supplier 1: LCSC; Category: Inductors; Supplier Part Number 1: C295225; Tolerance: ±20%; Rated Current: 2.4A; DC Resistance: 27mΩ; RoHS: Yes; ComponentLink1Description: Datasheet; ComponentLink1URL: https://wmsc.lcsc.com/wmsc/upload/file/pdf/v2/lcsc/2304140030_TDK-NLCV32T-R22M-EFR_C295225.pdf; ComponentLink2Description: JLCPCB Part URL; ComponentLink2URL: https://jlcpcb.com/partdetail/C295225; ComponentLink3Description: LCSC Part URL; ComponentLink3URL: https://lcsc.com/product-detail/Inductors-SMD_TDK-TDK-NLCV32T-R22M-EFR_C295225.html
footprint IND-1210 (1210 (3225M) Inductor)
pins: 1, 2

## NLCV32T-R22M-EFRD
designator L?  Inductance: 220nH
Inductor, 220nH, ±20%, 27mΩ, 2.4A, SMD 1210; Manufacturer: TDK; Manufacturer Part Number: NLCV32T-R22M-EFRD; Q Factor: 10@25.2MHz; Package Size: 1210; JLCPCB Basic Part: No; JLCPCB Part Number: C295408; Supplier 1: LCSC; Category: Inductors; Supplier Part Number 1: C295408; Tolerance: ±20%; Rated Current: 2.4A; DC Resistance: 27mΩ; RoHS: Yes; ComponentLink1Description: Datasheet; ComponentLink1URL: https://wmsc.lcsc.com/wmsc/upload/file/pdf/v2/lcsc/2304140030_TDK-NLCV32T-R22M-EFRD_C295408.pdf; ComponentLink2Description: JLCPCB Part URL; ComponentLink2URL: https://jlcpcb.com/partdetail/C295408; ComponentLink3Description: LCSC Part URL; ComponentLink3URL: https://lcsc.com/product-detail/Inductors-SMD_TDK-TDK-NLCV32T-R22M-EFRD_C295408.html
footprint IND-1210 (1210 (3225M) Inductor)
pins: 1, 2

## NLCV32T-R33M-EFR
designator L?  Inductance: 330nH
Inductor, 330nH, ±20%, 35mΩ, 2.1A, SMD 1210; Manufacturer: TDK; Manufacturer Part Number: NLCV32T-R33M-EFR; Self-Resonant Frequency: 300MHz; Q Factor: 10@25.2MHz; Package Size: 1210; JLCPCB Basic Part: No; JLCPCB Part Number: C295210; Supplier 1: LCSC; Category: Inductors; Supplier Part Number 1: C295210; Tolerance: ±20%; Rated Current: 2.1A; DC Resistance: 35mΩ; RoHS: Yes; ComponentLink1Description: Datasheet; ComponentLink1URL: https://wmsc.lcsc.com/wmsc/upload/file/pdf/v2/lcsc/2105081904_TDK-NLCV32T-R33M-EFR_C295210.pdf; ComponentLink2Description: JLCPCB Part URL; ComponentLink2URL: https://jlcpcb.com/partdetail/C295210; ComponentLink3Description: LCSC Part URL; ComponentLink3URL: https://lcsc.com/product-detail/Inductors-SMD_TDK-TDK-NLCV32T-R33M-EFR_C295210.html
footprint IND-1210 (1210 (3225M) Inductor)
pins: 1, 2

## NLCV32T-R33M-EFRD
designator L?  Inductance: 330nH
Inductor, 330nH, ±20%, 35mΩ, 2.1A, SMD 1210; Manufacturer: TDK; Manufacturer Part Number: NLCV32T-R33M-EFRD; Q Factor: 10@25.2MHz; Package Size: 1210; JLCPCB Basic Part: No; JLCPCB Part Number: C295409; Supplier 1: LCSC; Category: Inductors; Supplier Part Number 1: C295409; Tolerance: ±20%; Rated Current: 2.1A; DC Resistance: 35mΩ; RoHS: Yes; ComponentLink1Description: Datasheet; ComponentLink1URL: https://wmsc.lcsc.com/wmsc/upload/file/pdf/v2/lcsc/2304140030_TDK-NLCV32T-R33M-EFRD_C295409.pdf; ComponentLink2Description: JLCPCB Part URL; ComponentLink2URL: https://jlcpcb.com/partdetail/C295409; ComponentLink3Description: LCSC Part URL; ComponentLink3URL: https://lcsc.com/product-detail/Inductors-SMD_TDK-TDK-NLCV32T-R33M-EFRD_C295409.html
footprint IND-1210 (1210 (3225M) Inductor)
pins: 1, 2

## NLCV32T-R47M-EFR
designator L?  Inductance: 470nH
Inductor, 470nH, ±20%, 38mΩ, 2A, SMD 1210; Manufacturer: TDK; Manufacturer Part Number: NLCV32T-R47M-EFR; Self-Resonant Frequency: 250MHz; Q Factor: 10@25.2MHz; Package Size: 1210; JLCPCB Basic Part: No; JLCPCB Part Number: C295222; Supplier 1: LCSC; Category: Inductors; Supplier Part Number 1: C295222; Tolerance: ±20%; Rated Current: 2A; DC Resistance: 38mΩ; RoHS: Yes; ComponentLink1Description: Datasheet; ComponentLink1URL: https://wmsc.lcsc.com/wmsc/upload/file/pdf/v2/lcsc/2304140030_TDK-NLCV32T-R47M-EFR_C295222.pdf; ComponentLink2Description: JLCPCB Part URL; ComponentLink2URL: https://jlcpcb.com/partdetail/C295222; ComponentLink3Description: LCSC Part URL; ComponentLink3URL: https://lcsc.com/product-detail/Inductors-SMD_TDK-TDK-NLCV32T-R47M-EFR_C295222.html
footprint IND-1210 (1210 (3225M) Inductor)
pins: 1, 2

## NLCV32T-R47M-EFRD
designator L?  Inductance: 470nH
Inductor, 470nH, ±20%, 38mΩ, 2A, SMD 1210; Manufacturer: TDK; Manufacturer Part Number: NLCV32T-R47M-EFRD; Self-Resonant Frequency: 250MHz; Q Factor: 10@25.2MHz; Package Size: 1210; JLCPCB Basic Part: No; JLCPCB Part Number: C295410; Supplier 1: LCSC; Category: Inductors; Supplier Part Number 1: C295410; Tolerance: ±20%; Rated Current: 2A; DC Resistance: 38mΩ; RoHS: Yes; ComponentLink1Description: Datasheet; ComponentLink1URL: https://wmsc.lcsc.com/wmsc/upload/file/pdf/v2/lcsc/2304140030_TDK-NLCV32T-R47M-EFRD_C295410.pdf; ComponentLink2Description: JLCPCB Part URL; ComponentLink2URL: https://jlcpcb.com/partdetail/C295410; ComponentLink3Description: LCSC Part URL; ComponentLink3URL: https://lcsc.com/product-detail/Inductors-SMD_TDK-TDK-NLCV32T-R47M-EFRD_C295410.html
footprint IND-1210 (1210 (3225M) Inductor)
pins: 1, 2

## NLCV32T-R47M-PF
designator L?  Inductance: 470nH
Inductor, 470nH, ±20%, 38mΩ, 2A, SMD 1210; Manufacturer: TDK; Manufacturer Part Number: NLCV32T-R47M-PF; Package Size: 1210; JLCPCB Basic Part: No; JLCPCB Part Number: C513756; Supplier 1: LCSC; Category: Inductors; Supplier Part Number 1: C513756; Tolerance: ±20%; Rated Current: 2A; DC Resistance: 38mΩ; RoHS: Yes; ComponentLink1Description: Datasheet; ComponentLink1URL: https://wmsc.lcsc.com/wmsc/upload/file/pdf/v2/lcsc/2004231435_TDK-NLCV32T-R47M-PF_C513756.pdf; ComponentLink2Description: JLCPCB Part URL; ComponentLink2URL: https://jlcpcb.com/partdetail/C513756; ComponentLink3Description: LCSC Part URL; ComponentLink3URL: https://lcsc.com/product-detail/Inductors-SMD_TDK-TDK-NLCV32T-R47M-PF_C513756.html
footprint IND-1210 (1210 (3225M) Inductor)
pins: 1, 2

## NLCV32T-R68M-EFRD
designator L?  Inductance: 680nH
Inductor, 680nH, ±20%, 45mΩ, 1.9A, SMD 1210; Manufacturer: TDK; Manufacturer Part Number: NLCV32T-R68M-EFRD; Self-Resonant Frequency: 180MHz; Q Factor: 10@25.2MHz; Package Size: 1210; JLCPCB Basic Part: No; JLCPCB Part Number: C295411; Supplier 1: LCSC; Category: Inductors; Supplier Part Number 1: C295411; Tolerance: ±20%; Rated Current: 1.9A; DC Resistance: 45mΩ; RoHS: Yes; ComponentLink1Description: Datasheet; ComponentLink1URL: https://wmsc.lcsc.com/wmsc/upload/file/pdf/v2/lcsc/1912111437_TDK-NLCV32T-R68M-EFRD_C295411.pdf; ComponentLink2Description: JLCPCB Part URL; ComponentLink2URL: https://jlcpcb.com/partdetail/C295411; ComponentLink3Description: LCSC Part URL; ComponentLink3URL: https://lcsc.com/product-detail/Inductors-SMD_TDK-TDK-NLCV32T-R68M-EFRD_C295411.html
footprint IND-1210 (1210 (3225M) Inductor)
pins: 1, 2

## NLFV32T-3R3M-EF
designator L?  Inductance: 3.3uH
Inductor, 3.3uH, ±20%, 110mΩ, 420mA, SMD 1210; Manufacturer: TDK; Manufacturer Part Number: NLFV32T-3R3M-EF; Package Size: 1210; JLCPCB Basic Part: No; JLCPCB Part Number: C87560; Supplier 1: LCSC; Category: Inductors; Supplier Part Number 1: C87560; Tolerance: ±20%; Rated Current: 420mA; DC Resistance: 110mΩ; RoHS: Yes; ComponentLink1Description: Datasheet; ComponentLink1URL: https://wmsc.lcsc.com/wmsc/upload/file/pdf/v2/lcsc/1810201222_TDK-NLFV32T-3R3M-EF_C87560.pdf; ComponentLink2Description: JLCPCB Part URL; ComponentLink2URL: https://jlcpcb.com/partdetail/C87560; ComponentLink3Description: LCSC Part URL; ComponentLink3URL: https://lcsc.com/product-detail/Inductors-SMD_TDK-TDK-NLFV32T-3R3M-EF_C87560.html
footprint IND-1210 (1210 (3225M) Inductor)
pins: 1, 2

## NLFV32T-101K-EF
designator L?  Inductance: 100uH
Inductor, 100uH, ±10%, 2.2Ω, 55mA, SMD 1210; Manufacturer: TDK; Manufacturer Part Number: NLFV32T-101K-EF; Package Size: 1210; JLCPCB Basic Part: No; JLCPCB Part Number: C114775; Supplier 1: LCSC; Category: Inductors; Supplier Part Number 1: C114775; Tolerance: ±10%; Rated Current: 55mA; DC Resistance: 2.2Ω; RoHS: Yes; ComponentLink1Description: Datasheet; ComponentLink1URL: https://wmsc.lcsc.com/wmsc/upload/file/pdf/v2/lcsc/1810201240_TDK-NLFV32T-101K-EF_C114775.pdf; ComponentLink2Description: JLCPCB Part URL; ComponentLink2URL: https://jlcpcb.com/partdetail/C114775; ComponentLink3Description: LCSC Part URL; ComponentLink3URL: https://lcsc.com/product-detail/Inductors-SMD_TDK-TDK-NLFV32T-101K-EF_C114775.html
footprint IND-1210 (1210 (3225M) Inductor)
pins: 1, 2

## NLFV32T-102K-EF
designator L?  Inductance: 1mH
Inductor, 1mH, ±10%, 22.5Ω, 20mA, SMD 1210; Manufacturer: TDK; Manufacturer Part Number: NLFV32T-102K-EF; Package Size: 1210; JLCPCB Basic Part: No; JLCPCB Part Number: C114766; Supplier 1: LCSC; Category: Inductors; Supplier Part Number 1: C114766; Tolerance: ±10%; Rated Current: 20mA; DC Resistance: 22.5Ω; RoHS: Yes; ComponentLink1Description: Datasheet; ComponentLink1URL: https://wmsc.lcsc.com/wmsc/upload/file/pdf/v2/lcsc/2304140030_TDK-NLFV32T-102K-EF_C114766.pdf; ComponentLink2Description: JLCPCB Part URL; ComponentLink2URL: https://jlcpcb.com/partdetail/C114766; ComponentLink3Description: LCSC Part URL; ComponentLink3URL: https://lcsc.com/product-detail/Inductors-SMD_TDK-TDK-NLFV32T-102K-EF_C114766.html
footprint IND-1210 (1210 (3225M) Inductor)
pins: 1, 2

## NLFV32T-331K-EF
designator L?  Inductance: 330uH
Inductor, 330uH, ±10%, 6.8Ω, 35mA, SMD 1210; Manufacturer: TDK; Manufacturer Part Number: NLFV32T-331K-EF; Package Size: 1210; JLCPCB Basic Part: No; JLCPCB Part Number: C1329479; Supplier 1: LCSC; Category: Inductors; Supplier Part Number 1: C1329479; Tolerance: ±10%; Rated Current: 35mA; DC Resistance: 6.8Ω; RoHS: Yes; ComponentLink1Description: Datasheet; ComponentLink1URL: https://wmsc.lcsc.com/wmsc/upload/file/pdf/v2/lcsc/2304140030_TDK-NLFV32T-331K-EF_C1329479.pdf; ComponentLink2Description: JLCPCB Part URL; ComponentLink2URL: https://jlcpcb.com/partdetail/C1329479; ComponentLink3Description: LCSC Part URL; ComponentLink3URL: https://lcsc.com/product-detail/Inductors-SMD_TDK-TDK-NLFV32T-331K-EF_C1329479.html
footprint IND-1210 (1210 (3225M) Inductor)
pins: 1, 2

## NLV32T-1R0J-EF
designator L?  Inductance: 1uH
Inductor, 1uH, ±5%, 700mΩ, 400mA, SMD 1210; Manufacturer: TDK; Manufacturer Part Number: NLV32T-1R0J-EF; Self-Resonant Frequency: 120MHz; Q Factor: 30@7.96MHz; Package Size: 1210; JLCPCB Basic Part: No; JLCPCB Part Number: C286755; Supplier 1: LCSC; Category: Inductors; Supplier Part Number 1: C286755; Tolerance: ±5%; Rated Current: 400mA; DC Resistance: 700mΩ; RoHS: Yes; ComponentLink1Description: Datasheet; ComponentLink1URL: https://wmsc.lcsc.com/wmsc/upload/file/pdf/v2/lcsc/2304140030_TDK-NLV32T-1R0J-EF_C286755.pdf; ComponentLink2Description: JLCPCB Part URL; ComponentLink2URL: https://jlcpcb.com/partdetail/C286755; ComponentLink3Description: LCSC Part URL; ComponentLink3URL: https://lcsc.com/product-detail/Inductors-SMD_TDK-TDK-NLV32T-1R0J-EF_C286755.html
footprint IND-1210 (1210 (3225M) Inductor)
pins: 1, 2

## NLV32T-1R0J-EFD
designator L?  Inductance: 1uH
Inductor, 1uH, ±5%, 700mΩ, 400mA, SMD 1210; Manufacturer: TDK; Manufacturer Part Number: NLV32T-1R0J-EFD; Self-Resonant Frequency: 120MHz; Q Factor: 30@7.96MHz; Package Size: 1210; JLCPCB Basic Part: No; JLCPCB Part Number: C295363; Supplier 1: LCSC; Category: Inductors; Supplier Part Number 1: C295363; Tolerance: ±5%; Rated Current: 400mA; DC Resistance: 700mΩ; RoHS: Yes; ComponentLink1Description: Datasheet; ComponentLink1URL: https://wmsc.lcsc.com/wmsc/upload/file/pdf/v2/lcsc/2304140030_TDK-NLV32T-1R0J-EFD_C295363.pdf; ComponentLink2Description: JLCPCB Part URL; ComponentLink2URL: https://jlcpcb.com/partdetail/C295363; ComponentLink3Description: LCSC Part URL; ComponentLink3URL: https://lcsc.com/product-detail/Inductors-SMD_TDK-TDK-NLV32T-1R0J-EFD_C295363.html
footprint IND-1210 (1210 (3225M) Inductor)
pins: 1, 2

## NLV32T-1R0J-PF
designator L?  Inductance: 1uH
Inductor, 1uH, ±5%, 700mΩ, 400mA, SMD 1210; Manufacturer: TDK; Manufacturer Part Number: NLV32T-1R0J-PF; Self-Resonant Frequency: 120MHz; Q Factor: 30@7.96MHz; Package Size: 1210; JLCPCB Basic Part: No; JLCPCB Part Number: C22202; Supplier 1: LCSC; Category: Inductors; Supplier Part Number 1: C22202; Tolerance: ±5%; Rated Current: 400mA; DC Resistance: 700mΩ; RoHS: Yes; ComponentLink1Description: Datasheet; ComponentLink1URL: https://wmsc.lcsc.com/wmsc/upload/file/pdf/v2/lcsc/2304140030_TDK-NLV32T-1R0J-PF_C22202.pdf; ComponentLink2Description: JLCPCB Part URL; ComponentLink2URL: https://jlcpcb.com/partdetail/C22202; ComponentLink3Description: LCSC Part URL; ComponentLink3URL: https://lcsc.com/product-detail/Inductors-SMD_TDK-TDK-NLV32T-1R0J-PF_C22202.html
footprint IND-1210 (1210 (3225M) Inductor)
pins: 1, 2

## NLV32T-1R2J-EF
designator L?  Inductance: 1.2uH
Inductor, 1.2uH, ±5%, 750mΩ, 390mA, SMD 1210; Manufacturer: TDK; Manufacturer Part Number: NLV32T-1R2J-EF; Self-Resonant Frequency: 100MHz; Q Factor: 30@7.96MHz; Package Size: 1210; JLCPCB Basic Part: No; JLCPCB Part Number: C295142; Supplier 1: LCSC; Category: Inductors; Supplier Part Number 1: C295142; Tolerance: ±5%; Rated Current: 390mA; DC Resistance: 750mΩ; RoHS: Yes; ComponentLink1Description: Datasheet; ComponentLink1URL: https://wmsc.lcsc.com/wmsc/upload/file/pdf/v2/lcsc/2304140030_TDK-NLV32T-1R2J-EF_C295142.pdf; ComponentLink2Description: JLCPCB Part URL; ComponentLink2URL: https://jlcpcb.com/partdetail/C295142; ComponentLink3Description: LCSC Part URL; ComponentLink3URL: https://lcsc.com/product-detail/Inductors-SMD_TDK-TDK-NLV32T-1R2J-EF_C295142.html
footprint IND-1210 (1210 (3225M) Inductor)
pins: 1, 2